# Altium footprint library Capacitors.PcbLib: 34 footprints (part 3 of 3)
Each footprint in its own frame and in the unit in brackets; x right, y up, seen from the top. Pads: shape width x height; smd on the part's side, far side on the other; paste and mask are expansions set on the pad; w line width, h text height; cw(c..) or ccw(c..) is an arc to the next point about the centre after c.
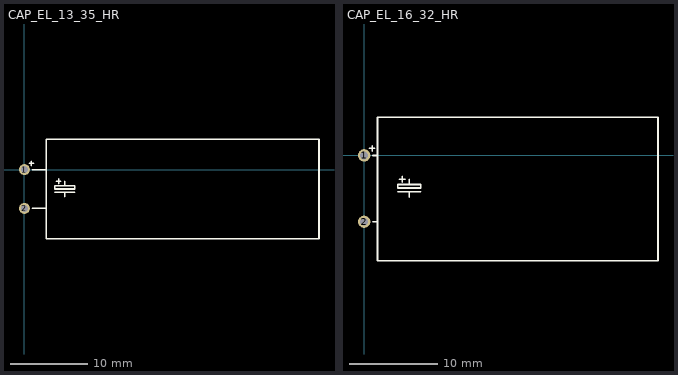
[diagram p2: the footprints below, top view; thin cyan lines are the x and y axes]

## CAP_EL_13_35_HR [mm]
pads (2):
  round 1.4 hole 0.9: 1(0,0) 2(0,-5)
Top Overlay:
  lines w0.2: 0.6,0.8 1.2,0.8 ; 0.9,0.5 0.9,1.1 ; 1,-5 2.8,-5 ; 1,0 2.8,0 ; 3.9,-2.9 6.5,-2.9 ; 4.1,-1.5 4.7,-1.5 ; 4.4,-1.8 4.4,-1.2 ; 5.2,-3.5 5.2,-2.9 ; 5.2,-2.1 5.2,-1.5 ; 2.8,-8.9 2.8,3.9 38,3.9 38,-8.9 2.8,-8.9 ; 3.9,-2.5 6.5,-2.5 6.5,-2.1 3.9,-2.1 3.9,-2.5
Top Assembly:
  text ".Designator" at 8.802,-2.833 h1
3D body "User Library-Cap electrolitic radial 13x35.STEP": height 12.8, standoff -0.2, extent 1.4,-8.998 37.9,3.998

## CAP_EL_16_32_HR [mm]
pads (2):
  round 1.4 hole 0.9: 1(0,0) 2(0,-7.5)
Top Overlay:
  lines w0.2: 0.6,0.8 1.2,0.8 ; 0.9,0.5 0.9,1.1 ; 1,-7.5 1.5,-7.5 ; 1,0 1.5,0 ; 3.8,-4.1 6.4,-4.1 ; 4,-2.7 4.6,-2.7 ; 4.3,-3 4.3,-2.4 ; 5.1,-4.7 5.1,-4.1 ; 5.1,-3.3 5.1,-2.7 ; 1.5,-11.9 1.5,4.3 33.2,4.3 33.2,-11.9 1.5,-11.9 ; 3.8,-3.7 6.4,-3.7 6.4,-3.3 3.8,-3.3 3.8,-3.7
Top Assembly:
  text ".Designator" at 7.802,-4.033 h1
3D body "User Library-JAMICON_TK_D(16)F(7_5)L(31_5).STEP": height 16, standoff 0, extent 0,-11.78 33.03,4.25